# Altium schematic symbol library BWSMA-KE-Z001.SchLib: 1 symbol
Pins are listed as number, name and electrical type; pins without a type are passive.

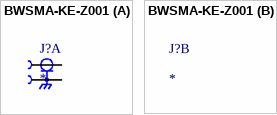
[diagram p0: symbol BWSMA-KE-Z001]

## BWSMA-KE-Z001
designator J?
1 Inner bore SMA Board Edge Positive foot -65â„ƒ~+165â„ƒ 50Î© Plugin RF Connectors / Coaxial Connectors ROHS; MF: Bat Wireless; MP: BWSMA-KE-Z001; SnapEDA_Link: https://www.snapeda.com/parts/BWSMA-KE-Z001/Bat+Wireless/view-part/?ref=snap; Package: None; Value: *; Check_prices: https://www.snapeda.com/parts/BWSMA-KE-Z001/Bat+Wireless/view-part/?ref=eda
footprint BAT_WIRELESS_BWSMA-KE-Z001
part A pins: 1, 2_1 2, 2_2 2, 2_3 2, 2_4 2